# EAGLE library part DRV8824 (library drv8824)
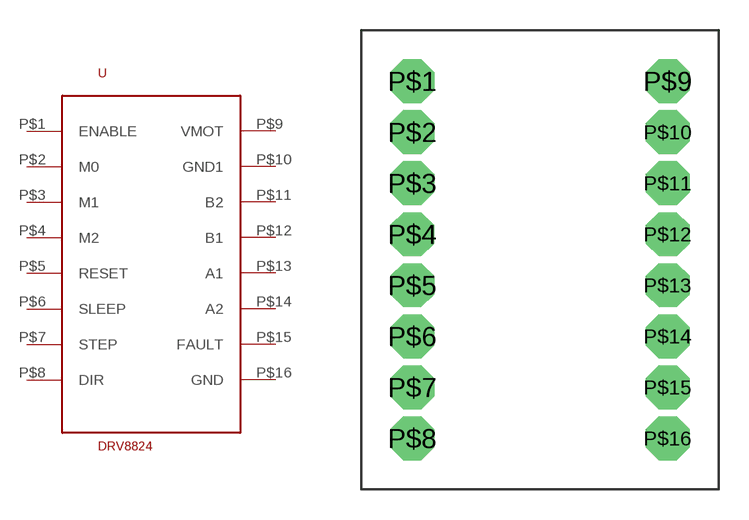
[diagram p0: symbol with the pads of POLOLU; footprint POLOLU]

Designator prefix -

## DRV8824  [POLOLU]
P$1  ENABLE
P$2  M0
P$3  M1
P$4  M2
P$5  RESET
P$6  SLEEP
P$7  STEP
P$8  DIR
P$9  VMOT
P$10  GND1
P$11  B2
P$12  B1
P$13  A1
P$14  A2
P$15  FAULT
P$16  GND

## Footprint POLOLU (pad centres in mm)
drill 1 pad 2.184 octagon: P$1 -6.35,8.89; P$2 -6.35,6.35; P$3 -6.35,3.81; P$4 -6.35,1.27; P$5 -6.35,-1.27; P$6 -6.35,-3.81; P$7 -6.35,-6.35; P$8 -6.35,-8.89; P$9 6.35,8.89; P$10 6.35,6.35; P$11 6.35,3.81; P$12 6.35,1.27; P$13 6.35,-1.27; P$14 6.35,-3.81; P$15 6.35,-6.35; P$16 6.35,-8.89